# Altium schematic symbol library CONNECTOR.SchLib: 32 symbols
Pins are listed as number, name and electrical type; pins without a type are passive.

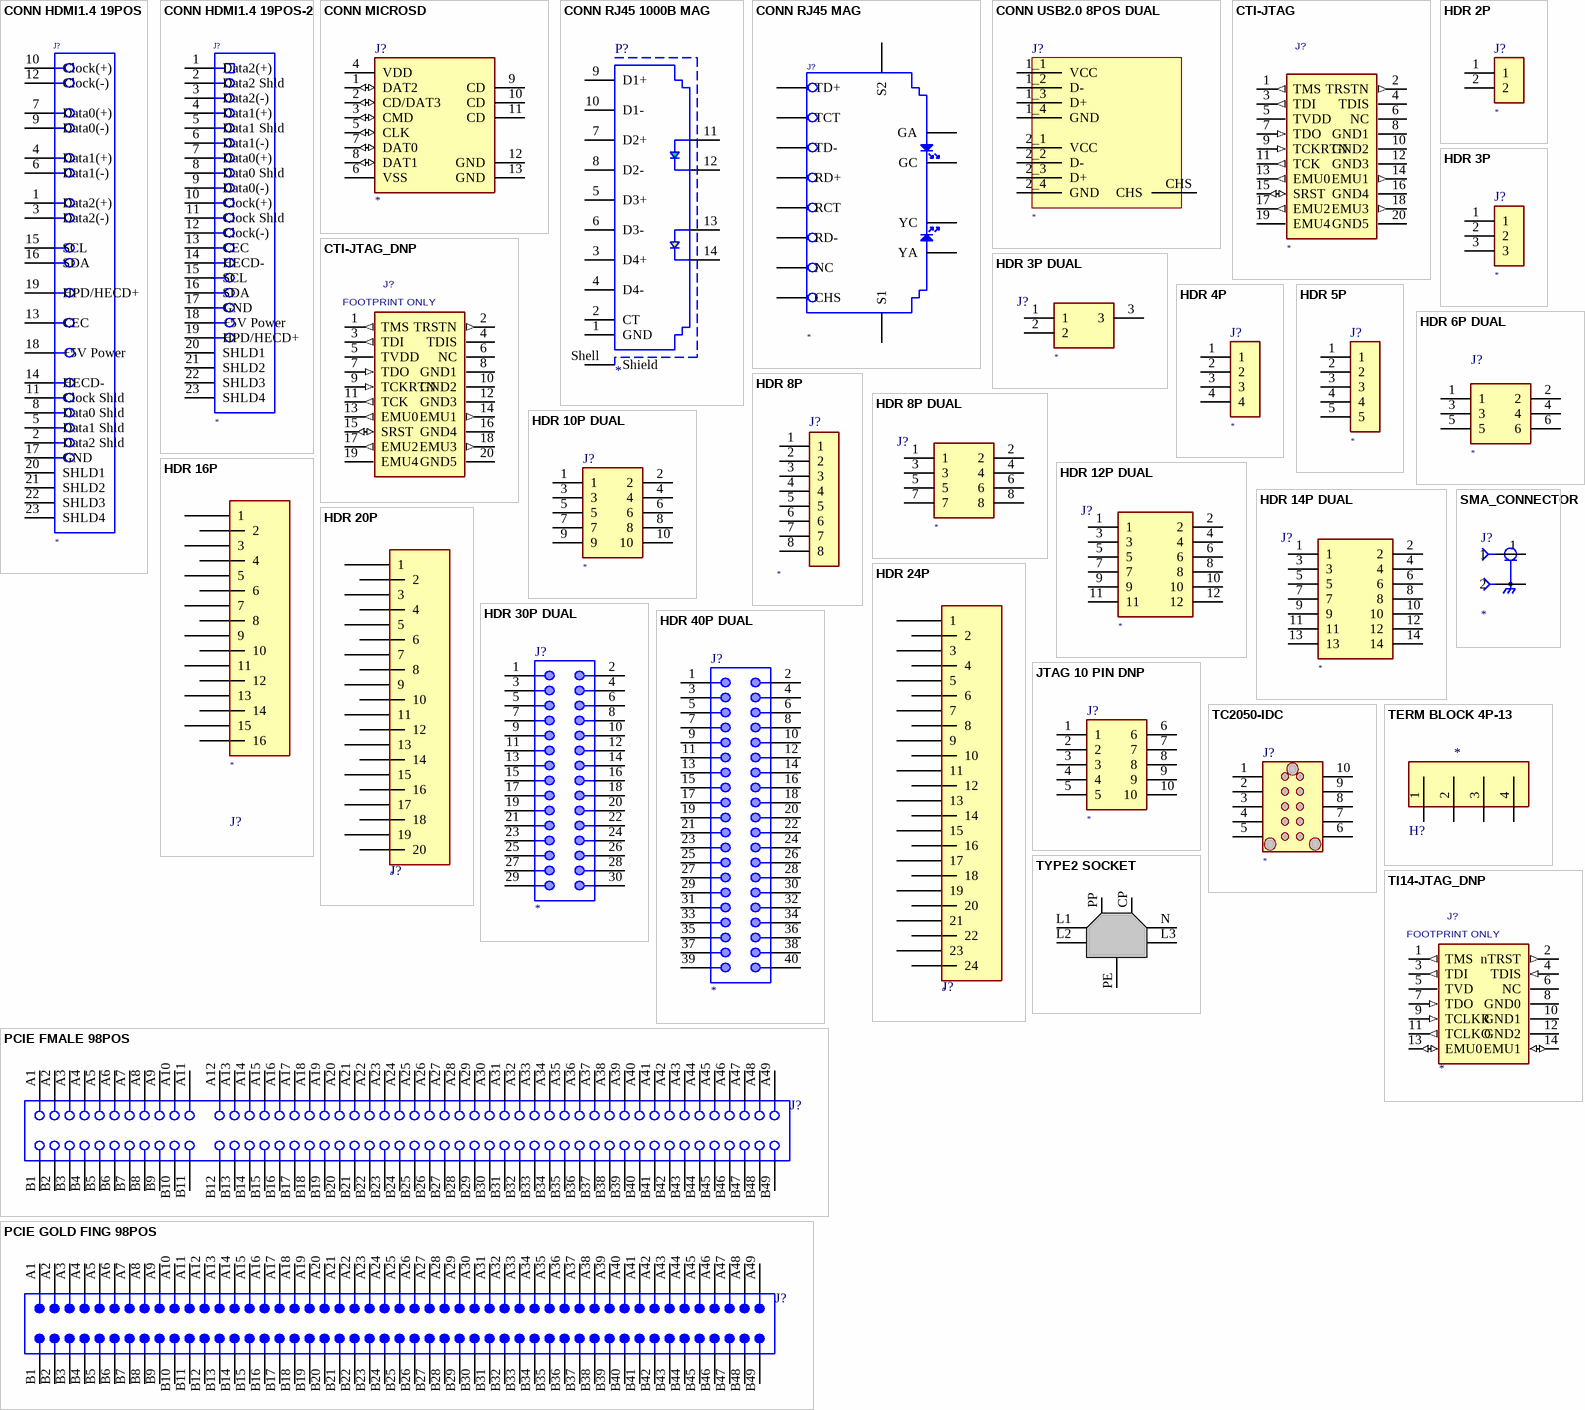
[diagram p0: symbols CONN HDMI1.4 19POS to TYPE2 SOCKET]

## CONN HDMI1.4 19POS
designator J?
Manufacturer Part Number: *
pins: 1 Data2(+), 2 Data2 Shld, 3 Data2(-), 4 Data1(+), 5 Data1 Shld, 6 Data1(-), 7 Data0(+), 8 Data0 Shld, 9 Data0(-), 10 Clock(+), 11 Clock Shld, 12 Clock(-), 13 CEC, 14 HECD-, 15 SCL, 16 SDA, 17 GND, 18 +5V Power, 19 HPD/HECD+, 20 SHLD1, 21 SHLD2, 22 SHLD3, 23 SHLD4

## CONN HDMI1.4 19POS-2
designator J?
Manufacturer Part Number: *
pins: 1 Data2(+), 2 Data2 Shld, 3 Data2(-), 4 Data1(+), 5 Data1 Shld, 6 Data1(-), 7 Data0(+), 8 Data0 Shld, 9 Data0(-), 10 Clock(+), 11 Clock Shld, 12 Clock(-), 13 CEC, 14 HECD-, 15 SCL, 16 SDA, 17 GND, 18 +5V Power, 19 HPD/HECD+, 20 SHLD1, 21 SHLD2, 22 SHLD3, 23 SHLD4

## CONN MICROSD
designator J?
Micro SD Memory Card Connector; Manufacturer Part Number: *
pins: 1 DAT2 (io), 2 CD/DAT3 (io), 3 CMD (io), 4 VDD (power), 5 CLK (io), 6 VSS (power), 7 DAT0 (io), 8 DAT1 (io), 9 CD, 10 CD, 11 CD, 12 GND (power), 13 GND (power)

## CONN RJ45 1000B MAG
designator P?
RJ45 LAN Transformer, 1000 Base-T, Port 1x1; ComponentLink1Description: Manufacturer; ComponentLink1URL: http://www.we-online.de; ComponentLink2Description: Datasheet; ComponentLink2URL: https://www.we-online.com/catalog/datasheet/74981104400.pdf; Manufacturer Part Number: *
footprint 74981104400
pins: 1 GND, 2 CT, 3 D4+, 4 D4-, 5 D3+, 6 D3-, 7 D2+, 8 D2-, 9 D1+, 10 D1-, 11, 12, 13, 14, Shell Shield

## CONN RJ45 MAG
designator J?
RJ45 LAN Transformer, 100 Base-T, Port 1x1; Manufacturer Part Number: *
pins: 1 TD+, 2 TD-, 3 RD+, 4 TCT, 5 RCT, 6 RD-, 7 NC, 8 CHS, 9 GA, 10 GC, 11 YA, 12 YC, 13 S1, 14 S2

## CONN USB2.0 8POS DUAL
designator J?
Manufacturer Part Number: *
pins: 1_1 VCC, 1_2 D-, 1_3 D+, 1_4 GND, 2_1 VCC, 2_2 D-, 2_3 D+, 2_4 GND, CHS

## CTI-JTAG
designator J?
JTAG TERMINAL; Manufacturer Part Number: *
pins: 1 TMS (out), 2 TRSTN (out), 3 TDI (out), 4 TDIS (power), 5 TVDD (power), 6 NC, 7 TDO (in), 8 GND1 (power), 9 TCKRTN (in), 10 GND2 (power), 11 TCK (out), 12 GND3 (power), 13 EMU0 (out), 14 EMU1 (out), 15 SRST (io), 16 GND4 (power), 17 EMU2 (out), 18 EMU3 (out), 19 EMU4, 20 GND5 (power)

## CTI-JTAG_DNP
designator J?, comment FOOTPRINT ONLY  (no BOM)
JTAG TERMINAL
pins: 1 TMS (out), 2 TRSTN (out), 3 TDI (out), 4 TDIS (power), 5 TVDD (power), 6 NC, 7 TDO (in), 8 GND1 (power), 9 TCKRTN (in), 10 GND2 (power), 11 TCK (out), 12 GND3 (power), 13 EMU0 (out), 14 EMU1 (out), 15 SRST (io), 16 GND4 (power), 17 EMU2 (out), 18 EMU3 (out), 19 EMU4, 20 GND5 (power)

## HDR 2P
designator J?
Manufacturer Part Number: *
pins: 1, 2

## HDR 3P
designator J?
Manufacturer Part Number: *
pins: 1, 2, 3

## HDR 3P DUAL
designator J?
Manufacturer Part Number: *
pins: 1, 2, 3

## HDR 4P
designator J?
Manufacturer Part Number: *
pins: 1, 2, 3, 4

## HDR 5P
designator J?
ComponentLink1Description: Datasheet; ComponentLink1URL: http://www.degson.com/en/pro_detail/id/1053; Manufacturer Part Number: *
pins: 1, 2, 3, 4, 5

## HDR 6P DUAL
designator J?
Manufacturer Part Number: *
pins: 1, 2, 3, 4, 5, 6

## HDR 8P
designator J?
Manufacturer Part Number: *
pins: 1, 2, 3, 4, 5, 6, 7, 8

## HDR 8P DUAL
designator J?
Manufacturer Part Number: *
pins: 1, 2, 3, 4, 5, 6, 7, 8

## HDR 10P DUAL
designator J?
Manufacturer Part Number: *
pins: 1, 2, 3, 4, 5, 6, 7, 8, 9, 10

## HDR 12P DUAL
designator J?
Manufacturer Part Number: *
pins: 1, 2, 3, 4, 5, 6, 7, 8, 9, 10, 11, 12

## HDR 14P DUAL
designator J?
Manufacturer Part Number: *
pins: 1, 2, 3, 4, 5, 6, 7, 8, 9, 10, 11, 12, 13, 14

## HDR 16P
designator J?
Manufacturer Part Number: *
pins: 1, 2, 3, 4, 5, 6, 7, 8, 9, 10, 11, 12, 13, 14, 15, 16

## HDR 20P
designator J?
Manufacturer Part Number: *
pins: 1, 2, 3, 4, 5, 6, 7, 8, 9, 10, 11, 12, 13, 14, 15, 16, 17, 18, 19, 20

## HDR 24P
designator J?
Manufacturer Part Number: *
pins: 1, 2, 3, 4, 5, 6, 7, 8, 9, 10, 11, 12, 13, 14, 15, 16, 17, 18, 19, 20, 21, 22, 23, 24

## HDR 30P DUAL
designator J?
Manufacturer Part Number: *
pins: 1, 2, 3, 4, 5, 6, 7, 8, 9, 10, 11, 12, 13, 14, 15, 16, 17, 18, 19, 20, 21, 22, 23, 24, 25, 26, 27, 28, 29, 30

## HDR 40P DUAL
designator J?
Manufacturer Part Number: *
pins: 1, 2, 3, 4, 5, 6, 7, 8, 9, 10, 11, 12, 13, 14, 15, 16, 17, 18, 19, 20, 21, 22, 23, 24, 25, 26, 27, 28, 29, 30, 31, 32, 33, 34, 35, 36, 37, 38, 39, 40

## JTAG 10 PIN DNP
designator J?  (no BOM)
Manufacturer Part Number: *
pins: 1, 2, 3, 4, 5, 6, 7, 8, 9, 10

## PCIE FMALE 98POS
designator J?  (value not drawn)
pins: A1, A2, A3, A4, A5, A6, A7, A8, A9, A10, A11, A12, A13, A14, A15, A16, A17, A18, A19, A20, A21, A22, A23, A24, A25, A26, A27, A28, A29, A30, A31, A32, A33, A34, A35, A36, A37, A38, A39, A40, A41, A42, A43, A44, A45, A46, A47, A48, A49, B1, B2, B3, B4, B5, B6, B7, B8, B9, B10, B11, B12, B13, B14, B15, B16, B17, B18, B19, B20, B21, B22, B23, B24, B25, B26, B27, B28, B29, B30, B31, B32, B33, B34, B35, B36, B37, B38, B39, B40, B41, B42, B43, B44, B45, B46, B47, B48, B49

## PCIE GOLD FING 98POS
designator J?  (value not drawn)  (no BOM)
ComponentLink1Description: Datasheet; ComponentLink1URL: https://www.samtec.com/products/pcie
pins: A1, A2, A3, A4, A5, A6, A7, A8, A9, A10, A11, A12, A13, A14, A15, A16, A17, A18, A19, A20, A21, A22, A23, A24, A25, A26, A27, A28, A29, A30, A31, A32, A33, A34, A35, A36, A37, A38, A39, A40, A41, A42, A43, A44, A45, A46, A47, A48, A49, B1, B2, B3, B4, B5, B6, B7, B8, B9, B10, B11, B12, B13, B14, B15, B16, B17, B18, B19, B20, B21, B22, B23, B24, B25, B26, B27, B28, B29, B30, B31, B32, B33, B34, B35, B36, B37, B38, B39, B40, B41, B42, B43, B44, B45, B46, B47, B48, B49

## SMA_CONNECTOR
designator J?
RF Coaxial  SMA 3.20mm Straight Jack; Manufacturer Part Number: *
pins: 1, 2

## TC2050-IDC
designator J?  (no BOM)
Manufacturer Part Number: *
pins: 1, 2, 3, 4, 5, 6, 7, 8, 9, 10

## TERM BLOCK 4P-13
designator H?, comment DG78C-B-04P-13-00AH  (value not drawn)
TERM.BLK.13.00MM 4P BARRIER TERMINAL BLACK; Manufacturer Part Number: *
pins: 1, 2, 3, 4

## TI14-JTAG_DNP
designator J?, comment FOOTPRINT ONLY  (no BOM)
TI14 JTAG TERMINAL; Manufacturer Part Number: *
pins: 1 TMS (out), 2 nTRST (out), 3 TDI (out), 4 TDIS (in), 5 TVD (power), 6 NC, 7 TDO (in), 8 GND0 (power), 9 TCLKR (in), 10 GND1 (power), 11 TCLKO (out), 12 GND2 (power), 13 EMU0 (io), 14 EMU1 (io)

## TYPE2 SOCKET
designator *  (value not drawn)  (graphical)
pins: CP, L1, L2, L3, N, PE, PP